# EAGLE library part FPS009-2305 (library yamaichi)
YAMAICHI FPS009-2305 SD,MMC slot
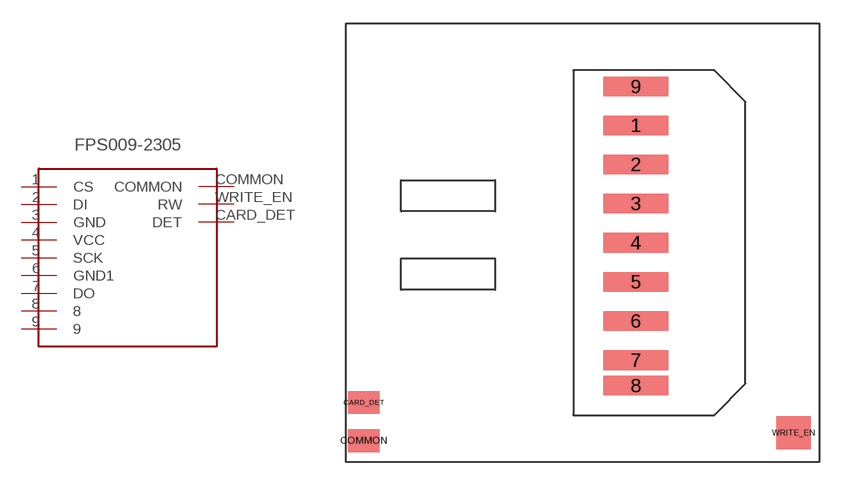
[diagram p0: symbol with the pads of FPS009-2305; footprint FPS009-2305]

Designator prefix -

## FPS009-2305  [FPS009-2305]
1  CS
2  DI
3  GND
4  VCC
5  SCK
6  GND1
7  DO
8  8
9  9
CARD_DET  DET
COMMON  COMMON
WRITE_EN  RW

## Footprint FPS009-2305 (pad centres in mm)
smd 4.15 x 1.25: 1 0,-2.5; 2 0,-5; 3 0,-7.5; 4 0,-10; 5 0,-12.5; 6 0,-15; 7 0,-17.5; 8 0,-19.125; 9 0,-0.03
smd 2 x 1.45: CARD_DET -17.375,-20.2; COMMON -17.375,-22.64
smd 2.2 x 2.1: WRITE_EN 10.075,-22.14